# Altium footprint library RK097 Telescopic Shaft.PcbLib: 2 footprints
Each footprint in its own frame and in the unit in brackets; x right, y up, seen from the top. Pads: shape width x height; smd on the part's side, far side on the other; paste and mask are expansions set on the pad; w line width, h text height; cw(c..) or ccw(c..) is an arc to the next point about the centre after c.
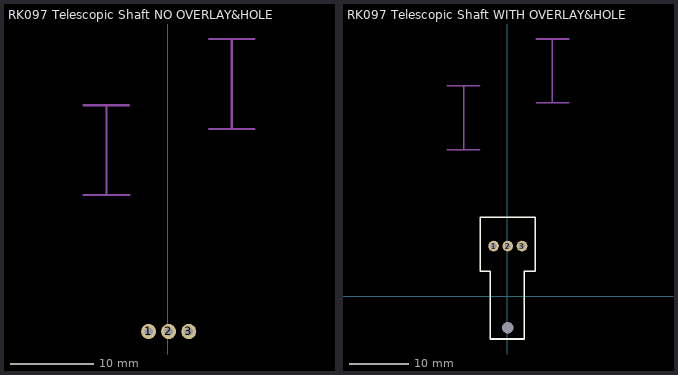
[diagram p0: the footprints below, top view; thin cyan lines are the x and y axes]

## RK097 Telescopic Shaft NO OVERLAY&HOLE [mm]
pads (3):
  round 1.8 hole 1: 1(-2.3,8.5) 2(0.1,8.5) 3(2.5,8.5)
Shaft Positions:
  lines w0.254: -10.1,24.8 -4.6,24.8 ; -10.1,35.55 -4.625,35.55 ; -7.362,35.55 -7.35,35.55 -7.35,24.8 ; 4.9,32.7 10.375,32.7 ; 4.9,43.475 10.375,43.475 ; 7.638,32.7 7.638,43.475
  text "Shaft out" at 8.154,41.546 h0.76
  text "Shaft in" at -7.754,27.354 h0.76
3D body "RK097 Telescopic Shaft.STEP": height 11.8, standoff -2.9, extent -4.623,-7.336 4.877,43.464

## RK097 Telescopic Shaft WITH OVERLAY&HOLE [mm]
pads (4):
  round 1.8 hole 1: 1(-2.3,8.5) 2(0.1,8.5) 3(2.5,8.5)
  round 0.6 hole 2 unplated: ""(0.1,-5.3)
Top Overlay:
  lines w0.254: -4.525,4.225 -4.525,13.325 4.75,13.325 4.75,4.225 2.875,4.225 2.875,-7.2 -2.875,-7.2 -2.875,4.225 -4.525,4.225
Shaft Positions:
  lines w0.254: -10.1,24.8 -4.6,24.8 ; -10.1,35.55 -4.625,35.55 ; -7.362,35.55 -7.35,35.55 -7.35,24.8 ; 4.9,32.7 10.375,32.7 ; 4.9,43.475 10.375,43.475 ; 7.638,32.7 7.638,43.475
  text "Shaft out" at 8.154,41.546 h0.76
  text "Shaft in" at -7.754,27.354 h0.76
3D body "RK097 Telescopic Shaft.STEP": height 11.8, standoff -2.9, extent -4.623,-7.336 4.877,43.464